# Altium schematic symbol library LMV7219M5.Schlib: 1 symbol
Pins are listed as number, name and electrical type; pins without a type are passive.

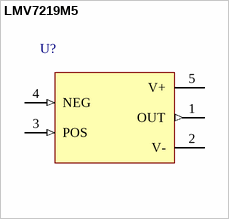
[diagram p0: symbol LMV7219M5]

## LMV7219M5
designator U?
7 nsec, 2.7V to 5V Comparator with Rail-to- Rail Output 5-SOT-23 -40 to 85
pins: 1 OUT (out), 2 V- (power), 3 POS (in), 4 NEG (in), 5 V+ (power)